# Altium schematic symbol library nPOC-BB_gamma_main-board.SCHLIB: 94 symbols (part 2 of 2)
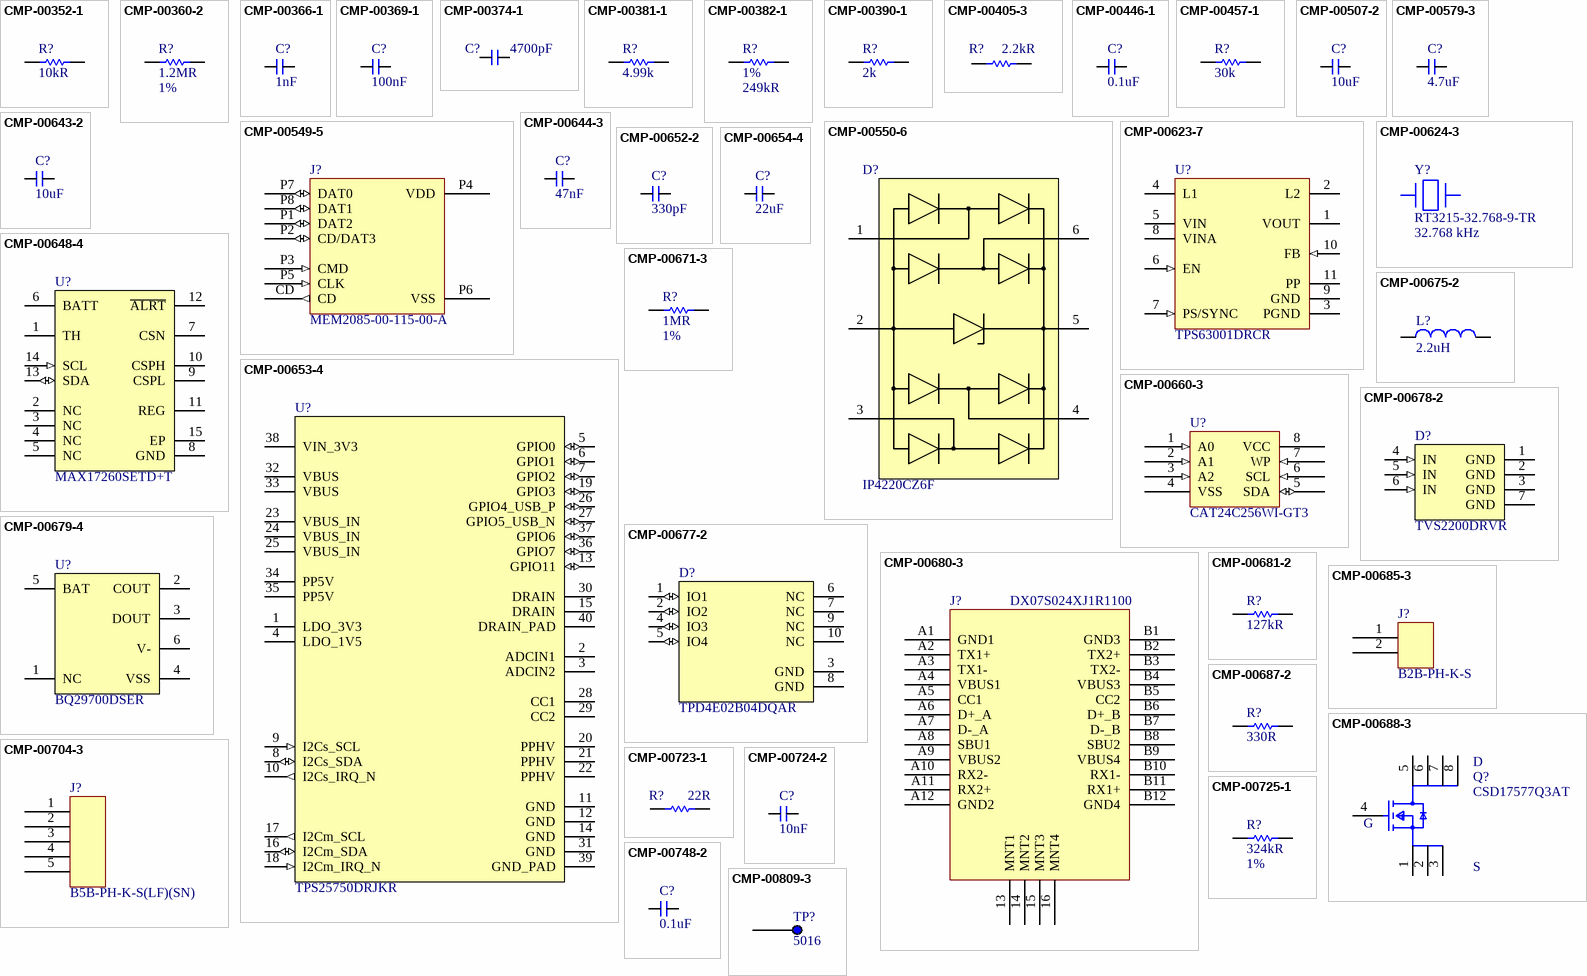
[diagram p3: symbols CMP-00352-1 to CMP-00809-3]

## CMP-00579-3
designator C?, comment 4.7uF
CAP CER 4.7UF 25V X5R 0603; Manufacturer: TDK; Manufacturer Part Number: C1608X5R1E475M080AC; Dielectric Material: Ceramic; Tolerance: 20%; Install: POP; Case Code (Imperial): 0603; Case Code (Metric): 1608; Value: 4.7uF; Case/Package: 0603; Radiation Hardening: No; Voltage Rating (DC): 25V; Width: 0.031inch; Min Operating Temperature: -55°C; Depth: 0.8mm; Mounting Technology: Surface Mount; Max Operating Temperature: 85°C; RoHS Compliant: Yes; Weight: 7.1E-05oz; Length: 1.6mm; Height: 0.8mm; Package Quantity: 1; Dielectric: X5R; Termination: SMD/SMT; Voltage Rating: 25V; Reach SVHC Compliant: Unknown; Series: C; Thickness: 0.039inch; Packaging: Tape and Reel; Lead Free: Lead Free; Component Type: Capacitors
footprint C0603
pins: 1, 2

## CMP-00623-7
designator U?, comment TPS63001DRCR
IC REG BUCK BST 3.3V 1.6A 10SON, FIXED 3.3V; Manufacturer: Texas Instruments; Output Current: 1.2A; Switching Frequency: 1.5MHz; Max Supply Voltage: 5.5V; Install: POP; Synchronous Rectifier: Yes; Efficiency: 96%; Topology: Buck-Boost; Number of Outputs: 1; Min Input Voltage: 1.8V; Quiescent Current: 30uA; Package Quantity: 1; Max Output Voltage: 3.3V; Series: -; Reach SVHC Compliant: No; Min Output Voltage: 3.3V; Packaging: Tape and Reel; Nominal Output Voltage: 3.3V; Radiation Hardening: No; Weight: 0.000921oz; Max Operating Temperature: 85°C; Operating Supply Voltage: 5.5V; Pins: 10; Min Operating Temperature: -40°C; Output Voltage: 3.3V; Lead Free: Lead Free; Max Output current: 1.2A; Output Type: Fixed; RoHS Compliant: Yes; Case/Package: VSON; Manufacturer Part Number: TPS63001DRCR; Component Type: Power Supply
footprint dfn10_3x3_p5mm_1mm (DFN 10 pin, 3x3, 0.5mm pitch, 1mm height, DRC0010J)
pins: 1 VOUT (power) "Buck-boost converter output", 2 L2 "Connection for Inductor", 3 PGND (power) "Power ground", 4 L1 "Connection for Inductor", 5 VIN (power) "Supply voltage for power stage", 6 EN (in) "Enable input. (1 enabled, 0 disabled)", 7 PS/SYNC (in) "Enable / disable power save mode (1 disabled, 0 enabled, clock signal for synchronization)", 8 VINA (power) "Supply voltage for control stage", 9 GND (power) "Control / logic ground", 10 FB (in) "Voltage feedback of adjustable versions, must be connected to VOUT on fixed output voltage versions", 11 PP (power) "Must be soldered to achieve appropriate power dissipation. Should be connected to PGND."

## CMP-00624-3
designator Y?, comment RT3215-32.768-9-TR  Operating Frequency: 32.768 kHz
RT3215 Series 0.032768 ±20 ppm 9pF -40°C TO +85°C SMT Tuning Fork Crystal; Manufacturer: Raltron Electronics; Value: 9E-12F; Frequency Tolerance: 20ppm; Install: POP; RoHS Compliant: Yes; Min Operating Temperature: -40°C; Max Operating Temperature: 85°C; Lead Free: Lead Free; Load Capacitance: 9pF; Manufacturer Part Number: RT3215-32.768-9-TR; Component Type: Crystals & Oscillators
footprint xtal2_3p2x1p5 (Crystal 32.768KHZ 9PF SMD)
pins: 1, 2

## CMP-00643-2
designator C?, comment Capacitance: 10uF  (hidden comment: C0603_10u_25V_10pct)
GRM188R61E106KA73J; Manufacturer: Murata; Tolerance: 10%; Voltage Rating: 25V; Install: POP; Case/Package: 0603; RoHS Compliant: Yes; Mount: Surface Mount; Max Operating Temperature: 85°C; Min Operating Temperature: -55°C; Series: GRM; Manufacturer Part Number: GRM188R61E106KA73J; Component Type: Resistors
footprint C0603
pins: 1, 2

## CMP-00644-3
designator C?, comment Capacitance: 47nF  (hidden comment: C0402_47n_50V_10pct)
CGA2B3X7R1H473K050BB; Manufacturer: TDK; Voltage Rating (DC): 50V; Tolerance: 10%; Dielectric: X7R; Install: POP; Weight: 2.3E-05oz; Case Code (Metric): 1005; Min Operating Temperature: -55°C; Width: 0.02inch; RoHS Compliant: Yes; Thickness: 0.022inch; Ratings: AEC-Q200; Case/Package: 0402; Reach SVHC Compliant: No; Lead Free: Lead Free; Construction: Flat; Mount: Surface Mount; Depth: 0.5mm; Max Operating Temperature: 125°C; Voltage Rating: 50V; Packaging: Tape and Reel; Package Quantity: 1; Series: CGA; Termination: SMD/SMT; Height: 0.5mm; Length: 1mm; Case Code (Imperial): 0402; Manufacturer Part Number: CGA2B3X7R1H473K050BB; Component Type: Capacitors
footprint C0402
pins: 1, 2

## CMP-00648-4
designator U?, comment MAX17260SETD+T
Battery Management 5.1 A 1-Cell Fuel Gauge with ModelGauge m5 EZ and Optional H; Manufacturer: Maxim; Install: POP; RoHS Compliant: Yes; Manufacturer Part Number: MAX17260SETD+T; Component Type: Power Supply
footprint dfn14_3x3_p4mm (DFN 14 pin, 3x3mm, 0.4mm pin pitch, 0.75mm height)
pins: 1 TH, 2 NC, 3 NC, 4 NC, 5 NC, 6 BATT (power), 7 CSN, 8 GND (power), 9 CSPL, 10 CSPH, 11 REG (power), 12 ~{ALRT} (oc), 13 SDA (io), 14 SCL (in), 15 EP (power)

## CMP-00652-2
designator C?, comment value 330pF  (hidden comment: C0402_330p_50V_10pct)
0402 330 pF 50 V ±5% Tolerance C0G SMT Multilayer Ceramic Capacitor; Manufacturer: Murata; Manufacturer Part Number: GRM1555C1H331JA01D; Insulation Resistance: 10GR; Voltage: 50V; Temperature Coefficient: 30ppm/°C; Install: POP; Material: Ceramic; Depth: 0.5mm; Termination: SMD/SMT; Dielectric: C0G; Packaging: Tape and Reel; Case/Package: 0402; Height: 0.5mm; Length: 1mm; Lead Free: Lead Free; RoHS Compliant: Yes; Thickness: 0.022inch; Case Code (Metric): 1005; Case Code (Imperial): 0402; Width: 0.5mm; Size: 0.5mm; Radiation Hardening: No; Pins: 2; Voltage Rating: 50V; Reach SVHC Compliant: No; Mounting Technology: Surface Mount; Tolerance: 5%; Min Operating Temperature: -55°C; Voltage Rating (DC): 50V; Construction: Flat; Package Quantity: 1; Max Operating Temperature: 125°C; Series: GRM; Component Type: Capacitors
footprint C0402
pins: 1, 2

## CMP-00653-4
designator U?, comment TPS25750DRJKR
Highly integrated USB Type-C® and USB PD controller with pre-configured GUI 38-WQFN -40 to 125; Manufacturer: Texas Instruments; Install: POP; Manufacturer Part Number: TPS25750DRJKR; Component Type: Interface
footprint qfn40_6x4_p4mm-RJK0038B (QFN 40 pin, 6x4mm, 0.4mm pitch - TI RJK0038B package)
pins: 1 LDO_3V3, 2 ADCIN1, 3 ADCIN2, 4 LDO_1V5, 5 GPIO0 (io), 6 GPIO1 (io), 7 GPIO2 (io), 8 I2Cs_SDA (io), 9 I2Cs_SCL (in), 10 I2Cs_IRQ_N (out), 11 GND (power), 12 GND (power), 13 GPIO11 (io), 14 GND (power), 15 DRAIN, 16 I2Cm_SDA (io), 17 I2Cm_SCL (out), 18 I2Cm_IRQ_N (in), 19 GPIO3 (io), 20 PPHV, 21 PPHV, 22 PPHV, 23 VBUS_IN (power), 24 VBUS_IN (power), 25 VBUS_IN (power), 26 GPIO4_USB_P (io), 27 GPIO5_USB_N (io), 28 CC1, 29 CC2, 30 DRAIN, 31 GND (power), 32 VBUS (power), 33 VBUS (power), 34 PP5V (power), 35 PP5V (power), 36 GPIO7 (io), 37 GPIO6 (io), 38 VIN_3V3 (power), 39 GND_PAD (power), 40 DRAIN_PAD

## CMP-00654-4
designator C?, comment 22uF
Multilayer Ceramic Capacitor, 22 uF, 25 V, ± 20%, X5R, 0805 [2012 Metric]; Manufacturer: Samsung; Manufacturer Part Number: CL21A226MAYNNNE; Install: POP; RoHS Compliant: Yes; Capacitance: 22uF; Component Type: Capacitors
footprint c0805 (0805)
pins: 1, 2

## CMP-00660-3
designator U?, comment CAT24C256WI-GT3
IC EEPROM 256KBIT 400KHZ 8SOIC; Manufacturer: ON Semiconductor; Supply Current: 3mA; Operating Supply Voltage: 5V; Density: 256Kb; Write Protection: YES; Access Time: 500ns; Nominal Supply Voltage: 5.5V; Organization: 32KX8; Memory Format: Non-Volatile,EEPROM; Interface: I2C,Serial; Memory Size: 32000; Min Supply Voltage: 1.8V; Write Cycle Time-Max (tWC): 5ms; Access Time-Max: 900ns; Frequency: 1MHz; Install: POP; Lead Free: Lead Free; Reach SVHC Compliant: No; Packaging: Tape and Reel; Mounting Technology: Surface Mount; Case/Package: SOIC; Max Operating Temperature: 85°C; Height: 1.5mm; Pins: 8; Length: 5mm; Max Supply Voltage: 5.5V; Halogen Free: Halogen Free; RoHS Compliant: Yes; Series: -; Radiation Hardening: No; Width: 4mm; Clock Frequency: 400kHz; Min Operating Temperature: -40°C; Manufacturer Part Number: CAT24C256WI-GT3; Component Type: Memory
footprint SO8 (SOIC8)
pins: 1 A0 (in), 2 A1 (in), 3 A2 (in), 4 VSS, 5 SDA (io), 6 SCL (in), 7 WP (in), 8 VCC

## CMP-00671-3
designator R?, comment value 1MR  Tolerance: 1%  (hidden comment: R0402_1M_1pct)
Res Thick Film 0402 1M Ohm 1% 0.063W(1/16W) ±100ppm/C Pad SMD T/R; Manufacturer: Walsin Technologies; Manufacturer Part Number: WR04X1004FTL; Install: POP; Temperature Coefficient: 100ppm/°C; Voltage Rating (DC): 50V; Power Rating: 62.5mW; Case Code (Metric): 1005; Reach SVHC Compliant: Unknown; Resistor Type: Thick Film; Series: WR04X; Depth: 0.5mm; Contact Material: Tin; Packaging: Tape and Reel; RoHS Compliant: Yes; Min Operating Temperature: -55°C; Package Quantity: 10000; Case Code (Imperial): 0402; Resistance Tolerance: 1%; Construction: Rectangular; Width: 0.5mm; Max Operating Temperature: 155°C; Lead Free: Lead Free; Case/Package: 0402; Height: 0.35mm; Termination: SMD/SMT; Voltage Rating: 50V; Mounting Technology: Surface Mount; Length: 1mm; Military Standard: Not; Component Type: Resistors
footprint R0402
pins: 1, 2
1 alternate drawing of the same symbol

## CMP-00675-2
designator L?, comment value 2.2uH  (hidden comment: 0530CDMCCDS-2R2MC)
FIXED IND 2.2UH 5.8A 29 MOHM; Manufacturer: Sumida; Shielding: Shielded; Install: POP; Saturation Current: 9A; Tolerance: 20%; Core Material: Metal; DC Resistance (DCR): 29mR; Test Frequency: 100kHz; Length: 0.205inch; RoHS Compliant: Yes; Min Operating Temperature: -55°C; Case/Package: Nonstandard; Packaging: Tape and Reel; Series: 0530CDMC/DS; Max Operating Temperature: 125°C; Current Rating: 5.8A; Width: 0.205inch; Height - Seated (Max): 0.118inch; Mounting Technology: Surface Mount; Manufacturer Part Number: 0530CDMCCDS-2R2MC; Component Type: Inductors
footprint ind2_5p4x5p2mm (Sumida 0530CDMCC/DS)
pins: 1, 2

## CMP-00677-2
designator D?, comment TPD4E02B04DQAR
Quad 0.25-pF, ±3.6-V, ±12-kV ESD protection diode for USB 3.0, HDMI 2.0 & High Speed Signals; Manufacturer: Texas Instruments; Power Line Protection: No; Number of Channels: 4; Diode Type: ZENER; Install: POP; Peak Pulse Power: 17W; Reverse Standoff Voltage: 3.6V; Interface: USB,HDMI; Peak Pulse Current: 5A; Min Breakdown Voltage: 5.5V; Pins: 10; Min Operating Temperature: -40°C; Max Operating Temperature: 125°C; Series: -; Packaging: Cut Tape; RoHS Compliant: Yes; Mounting Technology: Surface Mount; Reach SVHC Compliant: No; Number of Bidirectional Channels: 4; Operating Supply Voltage: 3.6V; Lead Free: Lead Free; Manufacturer Part Number: TPD4E02B04DQAR; Component Type: Diodes
footprint dfn10_1p1x2p6_p5mm (TI DQA0010A package, dfn 10 pin, 1.1 x 2.6mm, 0.5mm pitch, 0.55mm  height)
pins: 1 IO1 (io), 2 IO2 (io), 3 GND (power), 4 IO3 (io), 5 IO4 (io), 6 NC, 7 NC, 8 GND (power), 9 NC, 10 NC

## CMP-00678-2
designator D?, comment TVS2200DRVR
22-V flat-clamp surge protection device 6-WSON -40 to 125; Manufacturer: Texas Instruments; Clamping Voltage: 28V; Install: POP; Number of Channels: 1; RoHS Compliant: Yes; Series: -; Number of Circuits: 1; Max Operating Temperature: 125°C; Mounting Technology: Surface Mount; Min Operating Temperature: -40°C; Packaging: Cut Tape; Manufacturer Part Number: TVS2200DRVR; Component Type: Diodes
footprint dfn7_2x2_p65mm (TI - TPS61260DRVR)
pins: 1 GND (power), 2 GND (power), 3 GND (power), 4 IN (in), 5 IN (in), 6 IN (in), 7 GND (power)

## CMP-00679-4
designator U?, comment BQ29700DSER
Li-Ion/Li Polymer Advanced Single-Cell Battery Protector IC Family 6-WSON -40 to 85; Manufacturer: Texas Instruments; Operating Supply Voltage: 8V; Fault Protection: Over Current,Short Circuit,Over/Under Voltage; Number of Cells: 1; Install: POP; Packaging: Tape and Reel; Max Operating Temperature: 85°C; Lead Free: Lead Free; Contact Plating: Gold; Mounting Technology: Surface Mount; Series: -; Package Quantity: 3000; Pins: 6; Min Operating Temperature: -40°C; RoHS Compliant: Yes; Weight: 0.000342oz; Case/Package: WFDFN; Manufacturer Part Number: BQ29700DSER; Component Type: Power Supply
footprint dfn6_1p5x1p5_p5mm (TI DSE0006A package- dfn 6 pin, 1.5x1.5mm, 0.5mm pitch, 0.8mm height)
pins: 1 NC, 2 COUT, 3 DOUT, 4 VSS (power), 5 BAT (power), 6 V-

## CMP-00680-3
designator J?, comment DX07S024XJ1R1100
USB C Connector, 24 Contact(s), Female, Right Angle, Solder and Surface Mount Terminal, Locking, Receptacle; Manufacturer: JAE Electronics; Mating Cycles: 10000; Number of Ports: 1; Voltage Rating: 20V; Number of Contacts: 24; Shielding: Shielded; Install: POP; Max Operating Temperature: 80°C; Min Operating Temperature: -30°C; Insulation Color: Black; Contact Plating: Gold; Termination: Solder; Connector Type: USB; RoHS Compliant: Yes; Series: DX07; Gender: Receptacle; Mounting Technology: Surface Mount,Through Hole,Horizontal; Packaging: Cut Tape; Manufacturer Part Number: DX07S024XJ1R1100; Component Type: Connectors
footprint USB_JAE_DX07S024XJ1R1100 (JAE - DX07S024XJ1R1100,   USB-C (USB TYPE-C) USB 3.2 Gen 2 Receptacle Connector 24 Position Surface Mount, Right Angle; Through Hole)
pins: 13 MNT1, 14 MNT2, 15 MNT3, 16 MNT4, A1 GND1, A2 TX1+, A3 TX1-, A4 VBUS1, A5 CC1, A6 D+_A, A7 D-_A, A8 SBU1, A9 VBUS2, A10 RX2-, A11 RX2+, A12 GND2, B1 GND3, B2 TX2+, B3 TX2-, B4 VBUS3, B5 CC2, B6 D+_B, B7 D-_B, B8 SBU2, B9 VBUS4, B10 RX1-, B11 RX1+, B12 GND4

## CMP-00681-2
designator R?, comment value 127kR  (hidden comment: R0402_127k_1pct)
SMD Chip Resistor, 127 kOhm, ± 1%, 63 mW, 0402 [1005 Metric], Thick Film, General Purpose; Manufacturer: Yageo; Manufacturer Part Number: RC0402FR-07127KL; Power Rating: 62.5mW; Voltage Rating: 50V; Max Power Dissipation: 63mW; Temperature Coefficient: 100ppm/°C; Install: POP; Min Operating Temperature: -55°C; Tolerance: 1%; Number of Terminations: 2; Contact Plating: Tin,Matte; Length: 0.039inch; RoHS Compliant: Yes; Height: 0.016inch; Voltage Rating (DC): 50V; Series: RC; Termination: SMD/SMT; Features: Moisture Resistant; Max Operating Temperature: 155°C; Lead Free: Lead Free; Case/Package: 0402; Package Quantity: 1; Case Code (Metric): 1005; Packaging: Tape and Reel; Case Code (Imperial): 0402; Width: 0.02inch; Component Type: Resistors
footprint R0402
pins: 1, 2
1 alternate drawing of the same symbol

## CMP-00685-3
designator J?, comment B2B-PH-K-S
Connector Header, PH Series, 2 Position, 2.00mm, Through Hole, Press-Fit, Solder, Natural; Manufacturer: JST; Manufacturer Part Number: B2BPHKSLFSN; Working Voltage: 100V; Current Rating: 2A; Contact Resistance: 20mR; Mated Stacking Heights: 8mm; Contact Post Length: 0.134inch; Insulation Resistance: 1MR; Gender: Male; Number of Contacts: 2; Pitch: 2mm; Series: PH; Insulation Height: 0.236inch; Contact Plating: Tin,Copper; Contact Mating Length: 0.13inch; Depth: 4.5mm; Contact Finish - Mating: TIN; Max Voltage Rating (DC): 100V; Lead Free: Lead Free; Max Current Rating: 2A; Flammability Rating: UL94 V-0; Contact Material: Brass; Housing Color: White; Mounting Technology: Through Hole; Max Voltage Rating (AC): 100V; Number of Rows: 1; Contact Shape: Square; Voltage Rating: 100V; Length: 5.9mm; Housing Material: Polyamide; Pins: 2; Termination: Press-Fit; Height: 9.4mm; Lead Pitch: 2mm; Connector Type: Header; Width: 4.5mm; Orientation: Straight; Fastening Type: Detent; Min Operating Temperature: -25°C; Insulation Material: Nylon; Max Operating Temperature: 85°C; Color: Natural; Reach SVHC Compliant: Yes; Number of Poles: 2; Packaging: Bulk; Contact Type: Male Pin; Number of Positions: 2; Insulation Color: Natural; Voltage Rating (AC): 100V; Component Type: Connectors
footprint JST_B2B-PH-K-S (JST 2 pin Vertical connector 2mm pitch)
pins: 1, 2

## CMP-00687-2
designator R?, comment value 330R  (hidden comment: R0402_300R_1pct)
SMD Chip Resistor, 330 Ohm, ± 1%, 63 mW, 0402 [1005 Metric], Thick Film, General Purpose; Manufacturer: Yageo; Manufacturer Part Number: RC0402FR-07330RL; Temperature Coefficient: 100ppm/°C; Voltage Rating: 50V; Max Power Dissipation: 63mW; Power Rating: 62.5mW; Install: POP; Resistance Tolerance: 1%; Packaging: Tape and Reel; Technology: THICK FILM; RoHS Compliant: Yes; Construction: Rectangular; Military Standard: Not; Min Operating Temperature: -55°C; Case Code (Imperial): 0402; Height: 0.016inch; Series: RC; Package Quantity: 1; Depth: 0.5mm; Resistor Type: Thick Film; Reach SVHC Compliant: No; Case/Package: 0402; Tolerance: 1%; Termination: SMD/SMT; Length: 0.039inch; Max Operating Temperature: 155°C; Features: Moisture Resistant; Lead Free: Lead Free; Case Code (Metric): 1005; Number of Terminations: 2; Width: 0.02inch; Component Type: Resistors
footprint R0402
pins: 1, 2
1 alternate drawing of the same symbol

## CMP-00688-3
designator Q?, comment CSD17577Q3AT
30-V, N channel NexFET™ power MOSFET, single SON 3 mm x 3 mm, 6.4 mOhm 8-VSONP -55 to 150; Manufacturer: Texas Instruments; Drain to Source Resistance: 5.3mR; Power Dissipation: 2.8W; Threshold Voltage: 1.4V; Drain to Source Breakdown Voltage: 30V; Max Power Dissipation: 53W; Turn-Off Delay Time: 20ns; Number of Channels: 1; Gate to Source Voltage (Vgs): 20V; Rds On Max: 4.8mR; Fall Time: 4ns; Input Capacitance: 2.31nF; Polarity: N-CHANNEL; Continuous Drain Current (ID): 19A; Rise Time: 31ns; Install: POP; Case/Package: VSON; Pins: 8; Max Operating Temperature: 150°C; Series: NexFET™; Lead Free: Lead Free; Min Operating Temperature: -55°C; Element Configuration: Single; Reach SVHC Compliant: No; RoHS Compliant: Yes; Packaging: Tape and Reel; Number of Elements: 1; Mounting Technology: Surface Mount; Turn-On Delay Time: 4ns; Contact Plating: Tin; Drain to Source Voltage (Vdss): 30V; Package Quantity: 250; Manufacturer Part Number: CSD17577Q3AT; Component Type: Transistors
footprint dfn8_3p1x3p25_p65mm (TI DNH0008A package, dfn 8 pin, 3.1 x 3.25mm. 0.65mm pitch, 0.9mm height)
pins: 1 S, 2 S, 3 S, 4 G, 5 D, 6 D, 7 D, 8 D

## CMP-00704-3
designator J?, comment B5B-PH-K-S(LF)(SN)
Connector Header, PH Series, 5 Position, 2.00mm, Through Hole, Press-Fit, Solder, Natural; Manufacturer: JST; Number of Positions: 5; Max Voltage Rating (AC): 100V; Pitch: 2mm; Insulation Resistance: 1MR; Max Current Rating: 2A; Mated Stacking Heights: 8mm; Install: POP; Contact Resistance: 20mR; Length: 11.9mm; Depth: 4.5mm; Mounting Technology: Through Hole; Insulation Material: Nylon; Insulation Color: Natural; Orientation: Straight; Series: PH; Height: 9.4mm; Pins: 5; Contact Shape: Square; Termination: Solder; Contact Finish - Mating: TIN; Number of Rows: 1; Number of Contacts: 5; Contact Type: Male Pin; Reach SVHC Compliant: No; Number of Poles: 5; Voltage Rating: 100V; Contact Plating: Tin,Copper; Min Operating Temperature: -25°C; Voltage Rating (AC): 100V; Width: 4.5mm; Lead Pitch: 2mm; Current Rating: 2A; Working Voltage: 100V; Contact Material: Brass,Tin; Max Operating Temperature: 85°C; Housing Color: White; Lead Free: Lead Free; Connector Type: Header; Packaging: Bulk; Fastening Type: Detent; Flammability Rating: UL94 V-0; Housing Material: Polyamide; Manufacturer Part Number: B5B-PH-K-S(LF)(SN); Component Type: Connectors
footprint JST_B5B-PH-K-S (JST 5 pin Vertical connector, 2mm pitch)
pins: 1, 2, 3, 4, 5

## CMP-00723-1
designator R?, comment Resistance: 22R  (hidden comment: R0402_22R_1pct)
Res SMD 22 Ohm 1% 1/16W 0402; Manufacturer: Cyntec; Manufacturer Part Number: PFR05S-220-FNH; Install: POP; RoHS Compliant: Yes; Component Type: Resistors
footprint R0402
pins: 1, 2
1 alternate drawing of the same symbol

## CMP-00724-2
designator C?, comment value 10nF  (hidden comment: C0402_10n_35V_10pct)
Multilayer Ceramic Capacitor, 0.01 uF, 35 V, ± 10%, X7R, 0402 [1005 Metric]; Manufacturer: TDK; Manufacturer Part Number: CGA2B3X7R1V103K050BB; Voltage Rating (DC): 35V; Install: POP; Packaging: Tape and Reel; Voltage Rating: 35V; Height: 0.5mm; Package Quantity: 1; Max Operating Temperature: 125°C; Length: 1mm; Width: 0.02inch; RoHS Compliant: Yes; Case/Package: 0402; Weight: 2.3E-05oz; Thickness: 0.022inch; Reach SVHC Compliant: No; Tolerance: 10%; Min Operating Temperature: -55°C; Mounting Technology: Surface Mount; Termination: SMD/SMT; Case Code (Metric): 1005; Dielectric: X7R; Series: CGA; Case Code (Imperial): 0402; Depth: 0.5mm; Ratings: AEC-Q200; Component Type: Capacitors
footprint C0402
pins: 1, 2

## CMP-00725-1
designator R?, comment value 324kR  Tolerance: 1%  (hidden comment: R0402_324k_1pct)
SMD Chip Resistor, 324 kOhm, ± 1%, 63 mW, 0402 [1005 Metric], Thick Film, General Purpose; Manufacturer: Yageo; Manufacturer Part Number: RC0402FR-07324KL; Voltage Rating (DC): 50V; Temperature Coefficient: 100ppm/°C; Max Power Dissipation: 63mW; Power Rating: 62.5mW; Install: POP; Voltage Rating: 50V; Case/Package: 0402; Number of Terminations: 2; Military Standard: Not; Packaging: Tape and Reel; Construction: Rectangular; Contact Plating: Tin,Matte; Max Operating Temperature: 155°C; Height: 0.016inch; Lead Free: Lead Free; Series: RC; Termination: SMD/SMT; Length: 1mm; Case Code (Imperial): 0402; Case Code (Metric): 1005; RoHS Compliant: Yes; Features: Moisture Resistant; Depth: 0.5mm; Width: 0.5mm; Min Operating Temperature: -55°C; Component Type: Resistors
footprint R0402
pins: 1, 2
1 alternate drawing of the same symbol

## CMP-00748-2
designator C?, comment 0.1uF
Cap Cer 0.1UF 25V X7R 0805; Manufacturer: Kyocera AVX; Manufacturer Part Number: 08053C104KAT2A\4K; Tolerance: 10%; Capacitance: 0.1 uF; Maximum Voltage: 25V; Component Type: Capacitors
footprint c0805 (0805)
pins: 1, 2

## CMP-00809-3
designator TP?, comment 5016
Test point clip, SMT Phos Bronze/Silver 1000pc Tape & Reel; Manufacturer: Keystone Electronics; Install: DNP; Number of Ports: 1; Length: 3.81mm; Insulation Material: Polycarbonate; Series: -; Depth: 2.48mm; Material: Bronze,Silver; Contact Material: Bronze; Packaging: Tape and Reel; Color: White; Number of Contacts: 1; Orientation: Straight; Package Quantity: 1; RoHS Compliant: Yes; Reach SVHC Compliant: No; Termination: Solder; Height: 0.09inch; Mounting Technology: Surface Mount; Contact Plating: Silver; Lead Free: Lead Free; Manufacturer Part Number: 5016; Component Type: Miscellaneous
footprint KEYSTONE_5016 (Keystone SMT Test clip 5016)
pins: 1

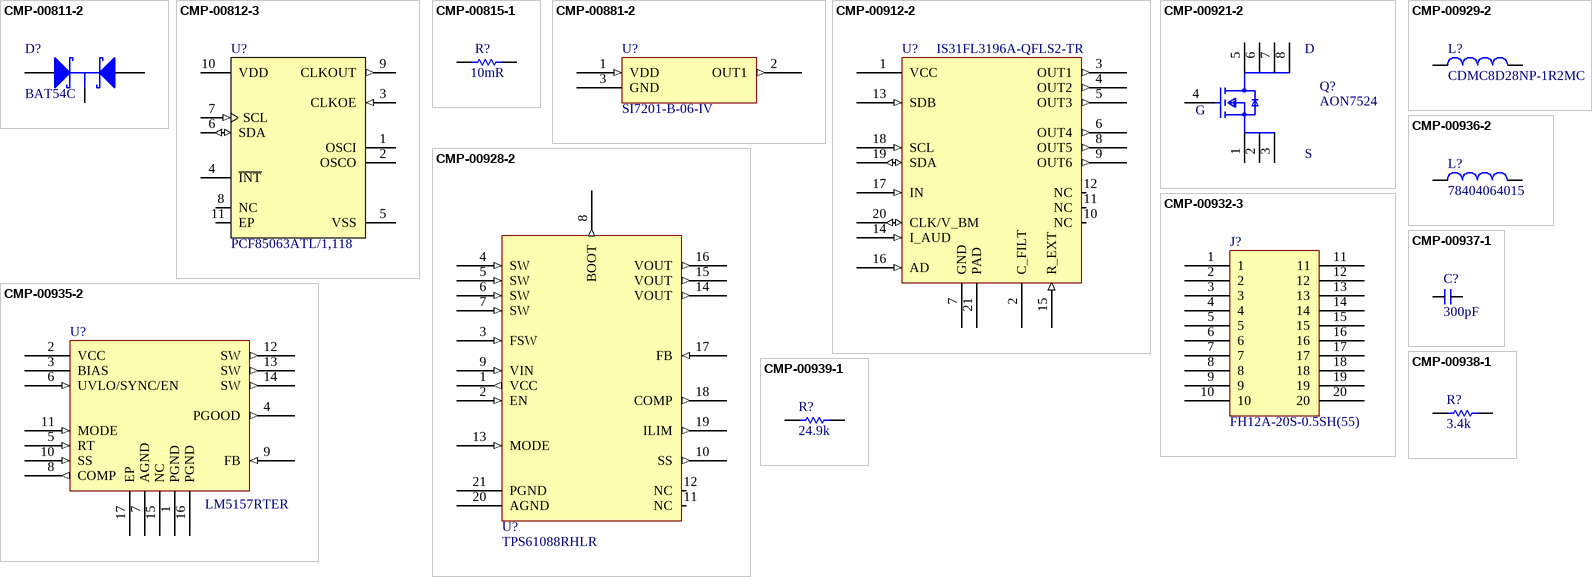
[diagram p2: symbols CMP-00811-2 to CMP-00939-1]

## CMP-00811-2
designator D?, comment BAT54C
Diode array, 1 pair. Common cathode. Small Signal Schottky 30V 0.2A 5ns Automotive 3-Pin SOT-23 T/R; Manufacturer: Nexperia; Manufacturer Part Number: BAT54C,215; Manufacturer: NXP Semiconductors; Diode capacitance: 10pF; Peak Forward Current: 300mA; Forward Current: 200mA; Install: POP; Pins: 3; RoHS Compliant: Yes; Case/Package: SOT-23-3; Lead Free: Lead Free; Max Operating Temperature: 150°C; Packaging: Tape and Reel; Min Operating Temperature: -55°C; Reverse Voltage: 30V; Manufacturer Part Number: BAT54C; Component Type: Diodes
footprint SOT23 (Sot23 3pin)
pins: 1 A1, 2 A2, 3 K

## CMP-00812-3
designator U?, comment PCF85063ATL/1,118
IC RTC CLK/CALENDAR I2C 10-SON; Manufacturer: NXP Semiconductors; Time Format: HH:MM:SS; Logic Function: Clock; Min Supply Voltage: 900mV; Date Format: Binary; Max Supply Voltage: 5.5V; Reach SVHC Compliant: No; Package Quantity: 4000; Pins: 10; Radiation Hardening: No; Interface: I2C; Max Operating Temperature: 85°C; Mounting Technology: Surface Mount; Case/Package: DFN EP; Lead Free: Lead Free; Min Operating Temperature: -40°C; Packaging: Tape and Reel; RoHS Compliant: Yes; Manufacturer Part Number: PCF85063ATL/1,118; Component Type: Clock&Timing
footprint dfn10_2p6x2p6_p5mm (DFN 10 pin, 2.6x2.6mm 0.5mm pitch)
pins: 1 OSCI, 2 OSCO, 3 CLKOE (in), 4 ~{INT} (oc), 5 VSS (power), 6 SDA (io), 7 SCL (in), 8 NC, 9 CLKOUT (out), 10 VDD (power), 11 EP (power)

## CMP-00815-1
designator R?, comment value 10mR  (hidden comment: R0603_0R01_1pct)
SMD Chip Resistor, 10 Milliohm, ± 1%, 250 mW, 0603 [1608 Metric], Thick Film, High Power; Manufacturer: Panasonic; Manufacturer Part Number: ERJ-3LWFR010V; Temperature Coefficient: 300ppm/°C; Install: POP; Max Power Dissipation: 250mW; Tolerance: 1%; Max Operating Temperature: 125°C; Case/Package: 0603; Case Code (Imperial): 0603; Packaging: Tape and Reel; Length: 0.063inch; Ratings: AEC-Q200; Package Quantity: 5000; Case Code (Metric): 1608; Lead Free: Lead Free; Width: 0.031inch; Features: Automotive AEC-Q200; RoHS Compliant: Yes; Min Operating Temperature: -55°C; Height: 0.026inch; Series: ERJ; Number of Terminations: 2; Component Type: Resistors
footprint R0603
pins: 1, 2
1 alternate drawing of the same symbol

## CMP-00881-2
designator U?, comment SI7201-B-06-IV
Switch/Latch Hall Effect Magnetic Position Sensor, SOT23-3, -40 to 125°C, RoHS; Manufacturer: Silicon Labs; Install: POP; Max Supply Current: 400nA; Packaging: Strip; RoHS Compliant: Yes; Series: -; Mounting Technology: Surface Mount; Min Operating Temperature: -40°C; Case/Package: SOT-23-3; Max Operating Temperature: 125°C; Manufacturer Part Number: SI7201-B-06-IV; Component Type: Switches
footprint SOT23 (Sot23 3pin)
pins: 1 VDD (in), 2 OUT1 (out), 3 GND

## CMP-00912-2
designator U?, comment IS31FL3196A-QFLS2-TR
6-Channel Light Effect LED Driver with I2C Interface 2.7V to 5.5V Input 20-Pin QFN T/R; Manufacturer: ISSI; Install: POP; Dimming: I²C; Output Current per Channel: 40mA; Number of Outputs: 6; Max Operating Temperature: 85°C; Case/Package: QFN; Mounting Technology: Surface Mount; Min Operating Temperature: -40°C; Max Supply Voltage: 5.5V; Packaging: Cut Tape; RoHS Compliant: Yes; Series: -; Manufacturer Part Number: IS31FL3196A-QFLS2-TR; Component Type: Drivers
footprint qfn20_3x3_p4mm (qfn 20pin 3x3mm 0.4mm pitch  0.8mm height)
pins: 1 VCC (power), 2 C_FILT, 3 OUT1 (out), 4 OUT2 (out), 5 OUT3 (out), 6 OUT4 (out), 7 GND, 8 OUT5 (out), 9 OUT6 (out), 10 NC, 11 NC, 12 NC, 13 SDB (in), 14 I_AUD (in), 15 R_EXT (in), 16 AD (in), 17 IN (in), 18 SCL (in), 19 SDA (io), 20 CLK/V_BM (io), 21 PAD

## CMP-00921-2
designator Q?, comment AON7524
Trans Mosfet N-ch 30V 28A 8-PIN Dfn-a Ep; Manufacturer: Alpha & Omega Semiconductor; Max Power Dissipation: 32W; Input Capacitance: 2.25nF; Rds On Max: 3.3mR; Install: POP; Series: AlphaMOS; Drain to Source Voltage (Vdss): 30V; Mounting Technology: Surface Mount; Continuous Drain Current (ID): 28A; RoHS Compliant: Yes; Case/Package: DFN; Max Operating Temperature: 150°C; Packaging: Cut Tape; Min Operating Temperature: -55°C; Manufacturer Part Number: AON7524; Component Type: Transistors
footprint dfn8_3x3_p65mm_fet (Alpha & Omega DFN 3x3 EP)
pins: 1 S, 2 S, 3 S, 4 G, 5 D, 6 D, 7 D, 8 D

## CMP-00928-2
designator U?, comment TPS61088RHLR
IC REG BOOST ADJ 10A SYNC 20VQFN; Manufacturer: Texas Instruments; Quiescent Current: 110uA; Efficiency: 91%; Install: POP; Switching Frequency: 2.2MHz; Max Output Voltage: 12.6V; Synchronous Rectifier: Yes; Output Type: Adjustable; Max Supply Voltage: 12V; Output Configuration: Positive; Min Input Voltage: 2.7V; Min Output Voltage: 4.5V; Number of Outputs: 1; Mounting Technology: Surface Mount; Output Current: 10A; Packaging: Cut Tape; Case/Package: VQFN; Lead Free: Lead Free; Output Voltage: 12.6V; Min Operating Temperature: -40°C; RoHS Compliant: Yes; Topology: Boost; Operating Supply Voltage: 12V; Max Operating Temperature: 85°C; Series: -; Pins: 20; Max Output current: 10A; Manufacturer Part Number: TPS61088RHLR; Component Type: Power Supply
footprint qfn20_3p5x4p5_p5mm (QFN 20 pin, 3.5 x 4.5mm, 0.5mm pitch, 1mm height)
pins: 1 VCC (out), 2 EN (in), 3 FSW (in), 4 SW (in), 5 SW (in), 6 SW (in), 7 SW (in), 8 BOOT (out), 9 VIN (in), 10 SS (out), 11 NC, 12 NC, 13 MODE (in), 14 VOUT (out), 15 VOUT (out), 16 VOUT (out), 17 FB (in), 18 COMP (out), 19 ILIM (out), 20 AGND, 21 PGND

## CMP-00929-2
designator L?, comment CDMC8D28NP-1R2MC
Inductor Power Shielded Wirewound 1.2uH 20% 1MHz 12.9A 0.007Ohm DCR T/R; Manufacturer: Sumida; Core Material: Metal,Composite; Install: POP; Saturation Current: 12.2A; DC Resistance (DCR): 7mR; Tolerance: 20%; Packaging: Tape and Reel; Radiation Hardening: No; Min Operating Temperature: -40°C; Mounting Technology: Surface Mount; Termination: SMD/SMT; Max Operating Temperature: 125°C; Max DC Current: 12.9A; Depth: 8.7mm; Case/Package: Nonstandard; Series: CDMC8D28; Length: 9.5mm; Value: 1.2uH; Package Quantity: 1000; RoHS Compliant: Yes; Height: 3mm; Width: 8.7mm; Test Frequency: 1MHz; Shielding: Shielded; Manufacturer Part Number: CDMC8D28NP-1R2MC; Component Type: Inductors
footprint ind2_9p5x8p5mm (Sumdia CDMC8D28)
pins: 1, 2

## CMP-00932-3
designator J?, comment FH12A-20S-0.5SH(55)
Connectors for Connecting - 0.5/1-mm Pitch FPC/FFC - FH12 Series (HIROSE ELECTRIC); Current Rating: 500mA; Voltage Rating (AC): 50V; Number of Positions: 20; Actuator Color: Brown; Gender: Female; Contact Location: Top; Wire/Cable Type: Straight; Actuator Material: Polyphenylene; Contact Resistance: 50mR; Max Current Rating: 400mA; Install: POP; Pitch: 0.5mm; Insulation Resistance: 500MR; Housing Material: Polyamide; Reach SVHC Compliant: No; Housing Color: Beige; Radiation Hardening: No; Min Operating Temperature: -40°C; Packaging: Tape and Reel; Max Operating Temperature: 70°C; Termination: Solder; Mounting Technology: Surface Mount; Flammability Rating: UL94 V-0; Mating Cycles: 20; Color: Beige,Brown; Lead Pitch: 0.5mm; Max Voltage Rating (AC): 50V; Orientation: Right Angle; RoHS Compliant: Yes; Voltage Rating: 50V; Material: Polyamide; Lead Free: Lead Free; Package Quantity: 2000; Contact Plating: Gold; Series: FH12; Length: 14.5mm; Number of Contacts: 20; Number of Rows: 1; Contact Material: Bronze; Width: 14.1mm; Depth: 6.2mm; Manufacturer: Hirose; Manufacturer Part Number: FH12A-20S-0.5SH(55); Component Type: Connectors
footprint hirose_fh12a-20s-0p5sh55 (Hirose FH12A Series 0.5mm pitch top contact FPC/FFC)
pins: 1, 2, 3, 4, 5, 6, 7, 8, 9, 10, 11, 12, 13, 14, 15, 16, 17, 18, 19, 20

## CMP-00935-2
designator U?, comment LM5157RTER
6A/4A, 50-V, 2.2-MHz wide VIN boost, flyback, & SEPIC converter with dual random spread spectrum 16-WQFN -40 to 125; Manufacturer: Texas Instruments; Install: POP; Manufacturer Part Number: LM5157RTER; Component Type: Power Supply
footprint qfn16_3x3_p5mm_thpad (QFN 16 pin, 3x3mm. 0.8mm height with thermal pad.  TI - RTE0016C)
pins: 1 PGND, 2 VCC (power), 3 BIAS (power), 4 PGOOD (out), 5 RT (in), 6 UVLO/SYNC/EN (in), 7 AGND, 8 COMP (out), 9 FB (in), 10 SS (in), 11 MODE (in), 12 SW (out), 13 SW (out), 14 SW (out), 15 NC, 16 PGND, 17 EP

## CMP-00936-2
designator L?, comment 78404064015
WE-LQSA SMT Semi-Shielded Power Inductor 1.5uH 6.1 A 13mOhm Max; Manufacturer: Wurth Electronics; Install: POP; Manufacturer Part Number: 78404064015; Component Type: Inductors
footprint ind2_wurth_78404064015 (Inductor Wurth 78404064015  WE_LQSA)
pins: 1, 2

## CMP-00937-1
designator C?, comment 300pF
Cap Ceramic 300pF 50V C0G 5% SMD 0402 125°C Paper T/R; Manufacturer: KEMET; Manufacturer Part Number: C0402C301J5GAC7867; Value: 300pF; Case Code (Metric): 1005; Min Operating Temperature: -55°C; Max Operating Temperature: 125°C; Pins: 2; Voltage Rating: 50V; Material: Ceramic; Series: SMD Comm C0G; Tolerance: 5%; Voltage Rating (DC): 50V; RoHS Compliant: Yes; Lead Free: Lead Free; Packaging: Cut Tape; Case/Package: 0402; Dielectric Material: Ceramic; Case Code (Imperial): 0402; Component Type: Capacitors
footprint C0402
pins: 1, 2

## CMP-00938-1
designator R?, comment 3.4k
SMD Chip Resistor, 3.4 kOhm, ± 1%, 100 mW, 0402 [1005 Metric], Thick Film, Precision; Manufacturer: Panasonic; Manufacturer Part Number: ERJ-2RKF3401X; Value: 3.4kR; Max Power Dissipation: 100mW; Temperature Coefficient: 100ppm/°C; Install: POP; Voltage Rating (DC): 50V; Ratings: AEC-Q200; Tolerance: 1%; Min Operating Temperature: -55°C; Height: 0.016inch; Number of Terminations: 2; Package Quantity: 1; Width: 0.5mm; Length: 0.039inch; Weight: 2.8E-05oz; Case Code (Imperial): 0402; Lead Free: Contains Lead; RoHS Compliant: Yes; Max Operating Temperature: 155°C; Termination: SMD/SMT; Case/Package: 0402; Features: Automotive AEC-Q200; Resistance Tolerance: 1%; Resistor Type: Thick Film; Contact Plating: Tin; Reach SVHC Compliant: No; Mounting Technology: Surface Mount; Packaging: Tape and Reel; Case Code (Metric): 1005; Series: ERJ; Power Rating: 100mW; Voltage Rating: 50V; Component Type: Resistors
footprint R0402
pins: 1, 2
1 alternate drawing of the same symbol

## CMP-00939-1
designator R?, comment 24.9k
Res Thick Film 0402 24.9K Ohm 1% 1/10W ±100ppm/|C SMD Punched Carrier T/R; Manufacturer: Panasonic; Manufacturer Part Number: ERJ-2RKF2492X; Power Rating: 100mW; Voltage Rating: 50V; Temperature Coefficient: 100ppm/°C; Value: 24.9kR; Install: POP; Tolerance: 1%; Package Quantity: 1; Series: ERJ; Case/Package: 0402; Resistance Tolerance: 1%; Features: Automotive AEC-Q200; Weight: 2.8E-05oz; Construction: Rectangular; Termination: SMD/SMT; Packaging: Tape and Reel; Min Operating Temperature: -55°C; Mounting Technology: Surface Mount; Military Standard: Not; Number of Terminations: 2; Width: 0.5mm; Max Power Dissipation: 100mW; Contact Plating: Tin; Depth: 0.5mm; Case Code (Imperial): 0402; RoHS Compliant: Yes; Max Operating Temperature: 155°C; Ratings: AEC-Q200; Lead Free: Lead Free; Length: 1mm; Case Code (Metric): 1005; Reach SVHC Compliant: No; Resistor Type: Thick Film; Voltage Rating (DC): 50V; Height: 0.016inch; Component Type: Resistors
footprint R0402
pins: 1, 2
1 alternate drawing of the same symbol